# Altium footprint library RC_ControllerV.2.PcbLib: 43 footprints (part 3 of 3)
Each footprint in its own frame and in the unit in brackets; x right, y up, seen from the top. Pads: shape width x height; smd on the part's side, far side on the other; paste and mask are expansions set on the pad; w line width, h text height; cw(c..) or ccw(c..) is an arc to the next point about the centre after c.
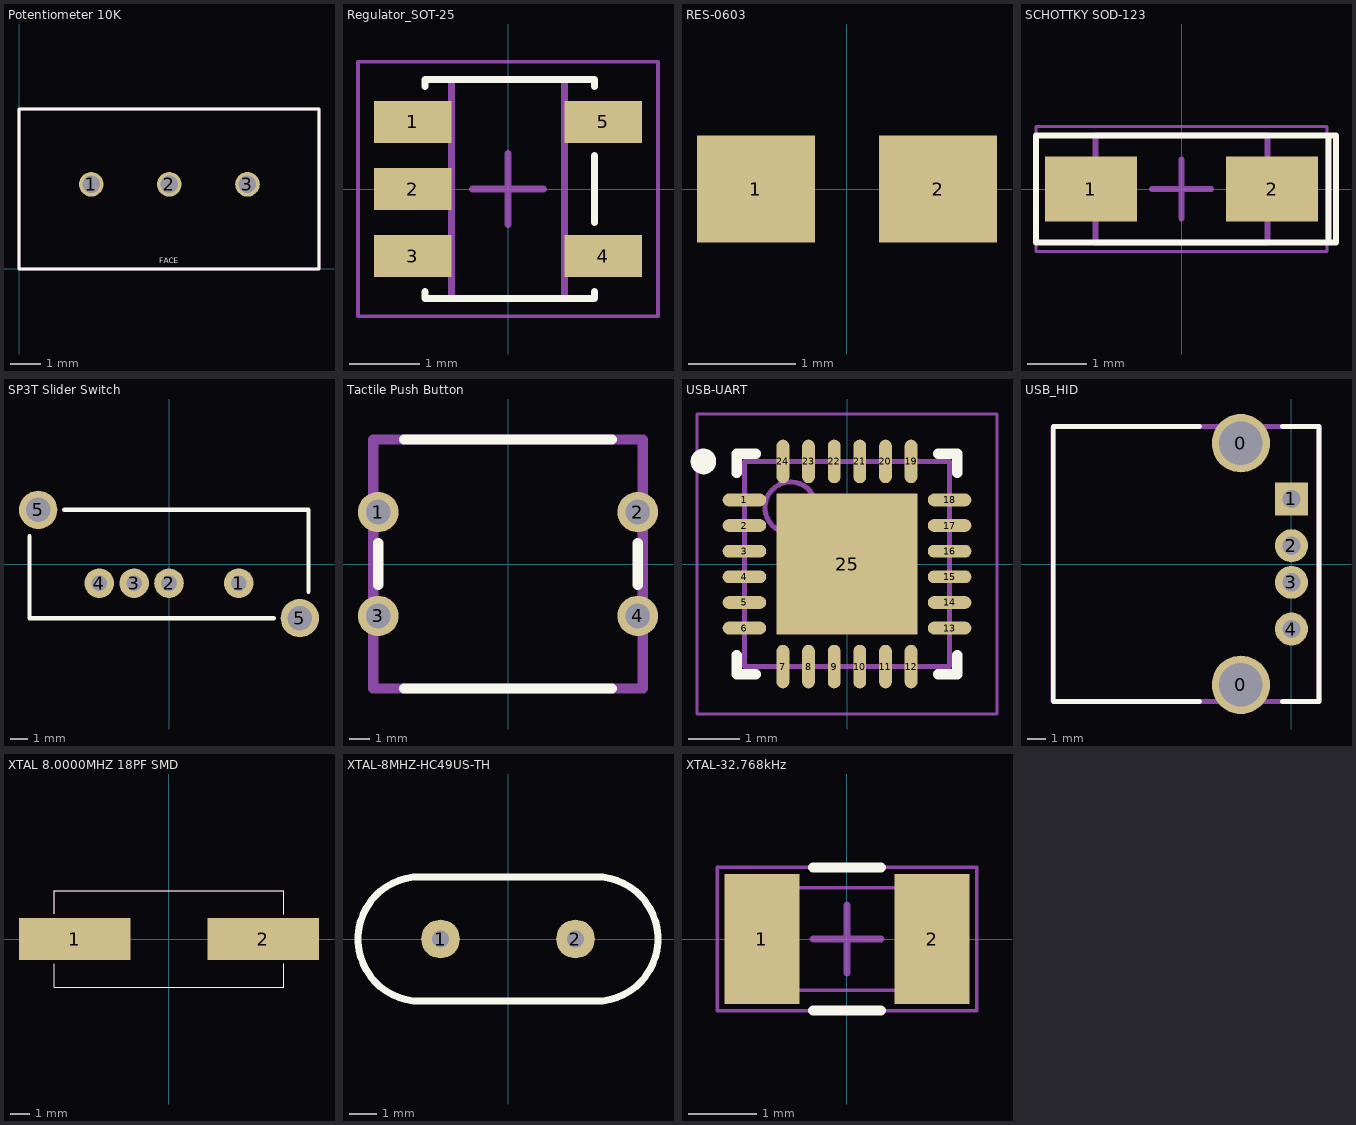
[diagram p2: the footprints below, top view; thin cyan lines are the x and y axes]

## Potentiometer 10K [mm]
pads (3):
  round 0.8 hole 0.57: 1(2.345,2.75) 2(4.885,2.75) 3(7.425,2.75)
Top Overlay:
  lines w0.1: 0,0 0,5.2 9.75,5.2 9.75,0 0,0
  text "FACE" at 4.55,0.125 h0.3
Mechanical 29:
  lines w0.1: 0,0 0,5.2 9.75,5.2 9.75,0 0,0
  text ".Designator" at 2.75,2.55 h1
3D body "3386w001.stp": height 9.59, standoff -5.8, extent 0.087,0.088 9.663,5.05

## Regulator_SOT-25 [mm]
height 1.4
pads (5):
  rect 1.1x0.6 smd: 1(-1.35,0.95) 2(-1.35,0) 3(-1.35,-0.95) 4(1.35,-0.95) 5(1.35,0.95)
Top Overlay:
  lines w0.1: -1.175,-1.45 -1.175,-1.55 1.225,-1.55 1.225,-1.45 ; -1.175,1.45 -1.175,1.55 1.225,1.55 1.225,1.45 ; 1.225,-0.475 1.225,0.475
Mechanical 13:
  lines w0.1: -0.8,-1.55 -0.8,1.55 0.8,1.55 0.8,-1.55 -0.8,-1.55
Mechanical 15:
  lines w0.05: -2.125,-1.8 -2.125,1.8 2.125,1.8 2.125,-1.8 -2.125,-1.8
  lines w0.1: -0.5,0 0.5,0 ; 0,-0.5 0,0.5
3D body "User Library-sot25.STEP": height 1.11, standoff -0.04, extent -1.175,-1.5 1.225,1.5

## RES-0603 [mm]
pads (2):
  rect 1.1x1 smd: 1(-0.85,0) 2(0.85,0)
3D body "SW3DPS-RESISTOR 0603-DEFAULT.STEP": height 0.53, standoff 0.02, extent -0.8,-0.415 0.8,0.445

## SCHOTTKY SOD-123 [mm]
height 0.98
pads (2):
  rect 1.55x1.1 smd: 1(-1.525,0) 2(1.525,0)
Top Overlay:
  lines w0.1: 2.475,0.9 2.475,-0.9 2.6,-0.9 ; 2.6,-0.9 2.6,0.9 -2.45,0.9 -2.45,-0.9 2.6,-0.9
Mechanical 13:
  lines w0.1: -1.45,-0.9 -1.45,0.9 1.45,0.9 1.45,-0.9 -1.45,-0.9
Mechanical 15:
  lines w0.05: -2.45,-1.05 -2.45,1.05 2.45,1.05 2.45,-1.05 -2.45,-1.05
  lines w0.1: -0.5,0 0.5,0 ; 0,-0.5 0,0.5
3D body "SW3DPS-SOD123-DEFAULT.STEP": height 1.28, standoff 0.01, extent -1.85,-0.8 1.85,0.8

## SP3T Slider Switch [mm]
pads (6):
  round 1.7 hole 0.9: 1(4,-1.1) 2(0,-1.1) 3(-2,-1.1) 4(-4,-1.1)
  round 2.2 hole 1.4: 5(-7.5,3.1) 5(7.5,-3.1)
Top Overlay:
  lines w0.254: -8,1.6 -8,-3.1 6,-3.1 ; -6,3.1 8,3.1 8,-1.6
3D body: height 0.25, standoff 0, extent -4.9,2 -4.9,2
3D body "c-1825255-7-a-3d.stp": height 17.51, standoff -3.49, extent -8,-3.4 8,3.3

## Tactile Push Button [mil]
pads (4):
  round 77 hole 47: 1(-246.06,98.43) 2(246.06,98.43) 3(-246.06,-98.43) 4(246.06,-98.43)
Top Overlay:
  lines w19.68: -246.06,-39.37 -246.06,39.37 ; -196.85,-236.22 196.85,-236.22 ; -196.85,236.22 196.85,236.22 ; 246.06,-39.37 246.06,39.37
Mechanical 29:
  lines w19.68: -255.91,-236.22 -255.91,236.22 255.91,236.22 255.91,-236.22 -255.91,-236.22
  text ".designator" at -196.85,-9.84 h39.37
3D body "User Library-MCDTS2-4N.STEP": height 285.43, standoff -147.42, extent -257.14,-236.22 257.14,236.22

## USB-UART [mm] "QFN, 24-Leads, Body 4.00x4.00mm, Pitch 0.50mm, Thermal Pad 2.75x2.75mm, IPC Low Density"
height 0.8
pads (25):
  oval 0.85x0.25 smd mask+0.05: 1(-2,1.25) 2(-2,0.75) 3(-2,0.25) 4(-2,-0.25) 5(-2,-0.75) 6(-2,-1.25) 13(2,-1.25) 14(2,-0.75) 15(2,-0.25) 16(2,0.25) 17(2,0.75) 18(2,1.25)
  oval 0.25x0.85 smd mask+0.05: 7(-1.25,-2) 8(-0.75,-2) 9(-0.25,-2) 10(0.25,-2) 11(0.75,-2) 12(1.25,-2) 19(1.25,2) 20(0.75,2) 21(0.25,2) 22(-0.25,2) 23(-0.75,2) 24(-1.25,2)
  rect 2.75x2.75 smd mask+0.05: 25(0,0)
Top Overlay:
  circle w0.25: c-2.8,2 r0.125
  lines w0.2: -2.15,-1.775 -2.15,-2.15 -1.775,-2.15 ; -2.15,1.775 -2.15,2.15 -1.775,2.15 ; 1.775,-2.15 2.15,-2.15 2.15,-1.775 ; 1.775,2.15 2.15,2.15 2.15,1.775
Mechanical 13:
  circle w0.1: c-1.1,1.1 r0.5
  lines w0.1: -2,-2 -2,2 2,2 2,-2 -2,-2
Mechanical 15:
  lines w0.05: -2.925,-2.925 -2.925,2.925 2.925,2.925 2.925,-2.925 -2.925,-2.925
  lines w0.1: -0.5,0 0.5,0 ; 0,-0.5 0,0.5
3D body: height 0.8, standoff 0.05, extent -2,-2 2,2
3D body "User Library-QFN-24 - EQ.STEP": height 1, standoff 0, extent -2,-2 2,2

## USB_HID [mm]
pads (6):
  round 3.18 hole 2.38: 0(-2.76,-6.595) 0(-2.76,6.595)
  rect 1.8x1.8 hole 1: 1(0,3.55)
  round 1.8 hole 1: 2(0,1) 3(0,-1) 4(0,-3.55)
Top Overlay:
  lines w0.254: -5,-7.5 -13,-7.5 -13,7.5 -5,7.5 ; -0.5,-7.5 1.5,-7.5 1.5,7.5 1,7.5 -0.5,7.5
Mechanical 29:
  lines w0.254: -0.5,7.5 1.5,7.5 ; 1.5,7.5 -12.961,7.5 -13.012,7.449 -13.012,-7.488 -13,-7.5 1.5,-7.5 1.5,7.5
  text ".designator" at -11,-5.5 h1.52
3D body "M-UE27-AC54-100-REVT1.STEP": height 7.61, standoff -3.13, extent -13.012,-7.399 0.788,7.449
3D body: height 4.31, standoff -3.49, extent -9.093,5.334 -9.093,5.334

## XTAL 8.0000MHZ 18PF SMD [mm]
pads (2):
  rect 5.6x2.1 smd: 1(-4.75,0) 2(4.75,0)
Top Overlay:
  lines w0.05: -5.775,-1.25 -5.775,-2.425 5.775,-2.425 5.775,-1.25 ; -5.775,1.275 -5.775,2.425 5.775,2.425 5.775,1.25
Mechanical 29:
  lines w0.05: -5.775,-2.425 5.775,-2.425 5.775,-1.25 ; -5.775,1.275 -5.775,2.425 5.775,2.425 5.775,1.25
  text ".Designator" at -2.35,1.475 h1
3D body "ABLS.STEP": height 4.18, standoff 0.01, extent -6.3,-2.399 6.4,2.3

## XTAL-8MHZ-HC49US-TH [mm]
pads (2):
  round 1.4 hole 0.6: 1(-2.44,0) 2(2.44,0)
Top Overlay:
  lines w0.254: -3.175,-2.25 cw(c-3.175,0) -3.175,2.25 3.175,2.25 cw(c3.175,0) 3.175,-2.25 -3.175,-2.25
3D body "SW3dPS-HP49US.step": height 3.52, standoff -3.98, extent -5.675,-2.325 5.675,2.325

## XTAL-32.768kHz [mm]
pads (2):
  rect 1.1x1.9 smd: 1(-1.25,0) 2(1.25,0)
Top Overlay:
  lines w0.15: -0.5,-1.05 0.5,-1.05 ; -0.5,1.05 0.5,1.05
Top Assembly:
  lines w0.05: -1.6,-0.75 1.6,-0.75 1.6,0.75 -1.6,0.75 -1.6,-0.75
  text ".Designator" at -3.749,-0.25 h0.75
Top Courtyard:
  lines w0.05: -1.9,-1.05 1.9,-1.05 1.9,1.05 -1.9,1.05 -1.9,-1.05
  lines w0.1: -0.5,0 0.5,0 ; 0,-0.5 0,0.5
3D body "ECS-.327-12.5-34B-C-TR--3DModel-STEP-40055.STEP": height 0.91, standoff 0.01, extent -1.6,-0.75 1.6,0.75